# Altium schematic symbol library Microchip PIC.SchLib: 1 symbol
Pins are listed as number, name and electrical type; pins without a type are passive.

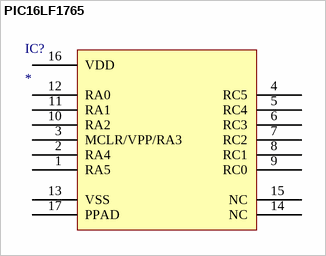
[diagram p0: symbol PIC16LF1765]

## PIC16LF1765
designator IC?
PIC PIC® XLP™ 16F Microcontroller IC 8-Bit 32MHz 14KB (8K x 14) FLASH 14-SOIC
pins: 1 RA5, 2 RA4, 3 MCLR/VPP/RA3, 4 RC5, 5 RC4, 6 RC3, 7 RC2, 8 RC1, 9 RC0, 10 RA2, 11 RA1, 12 RA0, 13 VSS, 14 NC, 15 NC, 16 VDD, 17 PPAD